# Altium footprint library SOT.PcbLib: 18 footprints (part 2 of 2)
Each footprint in its own frame and in the unit in brackets; x right, y up, seen from the top. Pads: shape width x height; smd on the part's side, far side on the other; paste and mask are expansions set on the pad; w line width, h text height; cw(c..) or ccw(c..) is an arc to the next point about the centre after c.
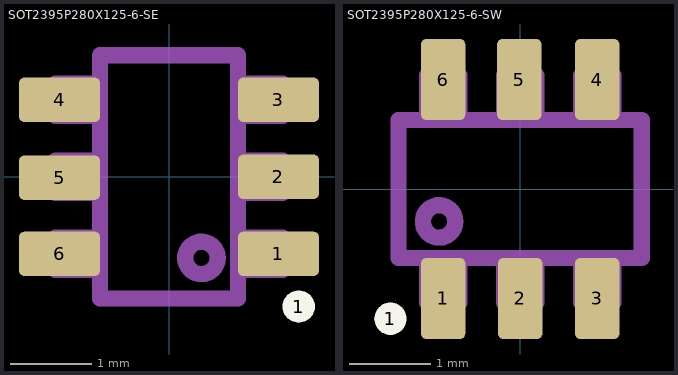
[diagram p1: the footprints below, top view; thin cyan lines are the x and y axes]

## SOT2395P280X125-6-SE [mm] "SOT23-6"
height 1.4
pads (7):
  rrect25% 1x0.55 smd: 1(1.35,-0.95) 2(1.35,0) 3(1.35,0.95) 4(-1.35,0.95) 5(-1.35,-0.01) 6(-1.35,-0.95)
  round 0.4 on Top Overlay: 1(1.6,-1.6)
Top Assembly:
  circle w0.2: c0.4,-1 r0.2
  lines w0.2: -0.85,-1.15 -1.4,-1.15 -1.4,-0.75 -0.85,-0.75 ; -0.85,-0.2 -1.4,-0.2 -1.4,0.2 -0.85,0.2 ; -0.85,0.75 -1.4,0.75 -1.4,1.15 -0.85,1.15 ; 0.85,-1.15 1.4,-1.15 1.4,-0.75 0.85,-0.75 ; 0.85,-0.2 1.4,-0.2 1.4,0.2 0.85,0.2 ; 0.85,0.75 1.4,0.75 1.4,1.15 0.85,1.15 ; -0.85,-1.5 -0.85,1.5 0.85,1.5 0.85,-1.5 -0.85,-1.5
3D body: height 1.26, standoff 1.25, extent 0.2,-1.199 0.6,-0.801
3D body: height 1, standoff 0.87, extent -1.1,-1.15 -0.8,-0.75
3D body: height 0.87, standoff 0.13, extent -1.1,-1.15 -0.95,-0.75
3D body: height 0.13, standoff 0, extent -1.4,-1.15 -0.95,-0.75
3D body: height 1, standoff 0.87, extent -1.1,-0.21 -0.8,0.19
3D body: height 0.87, standoff 0.13, extent -1.1,-0.21 -0.95,0.19
3D body: height 0.13, standoff 0, extent -1.4,-0.21 -0.95,0.19
3D body: height 1, standoff 0.87, extent -1.1,0.75 -0.8,1.15
3D body: height 0.87, standoff 0.13, extent -1.1,0.75 -0.95,1.15
3D body: height 0.13, standoff 0, extent -1.4,0.75 -0.95,1.15
3D body: height 1, standoff 0.87, extent 0.8,0.75 1.1,1.15
3D body: height 0.87, standoff 0.13, extent 0.95,0.75 1.1,1.15
3D body: height 0.13, standoff 0, extent 0.95,0.75 1.4,1.15
3D body: height 1, standoff 0.87, extent 0.8,-1.15 1.1,-0.75
3D body: height 0.87, standoff 0.13, extent 0.95,-1.15 1.1,-0.75
3D body: height 0.13, standoff 0, extent 0.95,-1.15 1.4,-0.75
3D body: height 0.13, standoff 0, extent 0.95,-0.2 1.4,0.2
3D body: height 0.87, standoff 0.13, extent 0.95,-0.2 1.1,0.2
3D body: height 1, standoff 0.87, extent 0.8,-0.2 1.1,0.2
3D body: height 1.25, standoff 0.1, extent -0.8,-1.45 0.8,1.45

## SOT2395P280X125-6-SW [mm] "SOT23-6"
height 1.4
pads (7):
  round 0.4 on Top Overlay: 1(-1.6,-1.6)
  rrect25% 0.55x1 smd: 1(-0.95,-1.35) 2(0,-1.35) 3(0.95,-1.35) 4(0.95,1.35) 5(-0.01,1.35) 6(-0.95,1.35)
Top Assembly:
  circle w0.2: c-1,-0.4 r0.2
  lines w0.2: -1.15,-0.85 -1.15,-1.4 -0.75,-1.4 -0.75,-0.85 ; -1.15,0.85 -1.15,1.4 -0.75,1.4 -0.75,0.85 ; -0.2,-0.85 -0.2,-1.4 0.2,-1.4 0.2,-0.85 ; -0.2,0.85 -0.2,1.4 0.2,1.4 0.2,0.85 ; 0.75,-0.85 0.75,-1.4 1.15,-1.4 1.15,-0.85 ; 0.75,0.85 0.75,1.4 1.15,1.4 1.15,0.85 ; -1.5,-0.85 -1.5,0.85 1.5,0.85 1.5,-0.85 -1.5,-0.85
3D body: height 1.25, standoff 0.1, extent -1.45,-0.8 1.45,0.8
3D body: height 1, standoff 0.87, extent -0.2,-1.1 0.2,-0.8
3D body: height 0.87, standoff 0.13, extent -0.2,-1.1 0.2,-0.95
3D body: height 0.13, standoff 0, extent -0.2,-1.4 0.2,-0.95
3D body: height 0.13, standoff 0, extent -1.15,-1.4 -0.75,-0.95
3D body: height 0.87, standoff 0.13, extent -1.15,-1.1 -0.75,-0.95
3D body: height 1, standoff 0.87, extent -1.15,-1.1 -0.75,-0.8
3D body: height 0.13, standoff 0, extent 0.75,-1.4 1.15,-0.95
3D body: height 0.87, standoff 0.13, extent 0.75,-1.1 1.15,-0.95
3D body: height 1, standoff 0.87, extent 0.75,-1.1 1.15,-0.8
3D body: height 0.13, standoff 0, extent 0.75,0.95 1.15,1.4
3D body: height 0.87, standoff 0.13, extent 0.75,0.95 1.15,1.1
3D body: height 1, standoff 0.87, extent 0.75,0.8 1.15,1.1
3D body: height 0.13, standoff 0, extent -0.21,0.95 0.19,1.4
3D body: height 0.87, standoff 0.13, extent -0.21,0.95 0.19,1.1
3D body: height 1, standoff 0.87, extent -0.21,0.8 0.19,1.1
3D body: height 0.13, standoff 0, extent -1.15,0.95 -0.75,1.4
3D body: height 0.87, standoff 0.13, extent -1.15,0.95 -0.75,1.1
3D body: height 1, standoff 0.87, extent -1.15,0.8 -0.75,1.1
3D body: height 1.26, standoff 1.25, extent -1.199,-0.6 -0.801,-0.2